# EAGLE library part SN74LVC125AD (library NetGeeks)
Quadruple Bus Buffer Gate With 3-State Outputs Source: Datasheet <http://www.ti.com/lit/ds/symlink/sn74lvc125a.pdf>
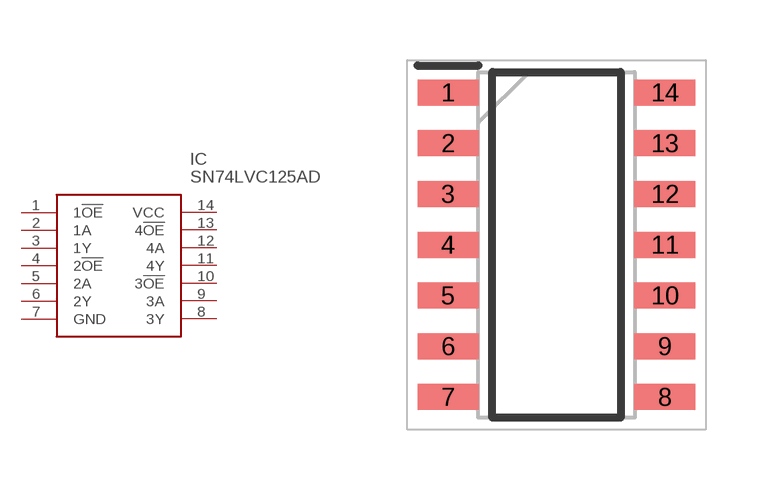
[diagram p12: symbol with the pads of SOIC127P600X175-14N; footprint SOIC127P600X175-14N]

Designator prefix IC

## SN74LVC125AD (Arrow_Part_Number: SN74LVC125AD; Arrow_Price/Stock: https://www.arrow.com/en/products/sn74lvc125ad/texas-instruments; Description: Quadruple Bus Buffer Gate With 3-State Outputs; Height: 1.75mm; Manufacturer_Name: Texas Instruments; Manufacturer_Part_Number: SN74LVC125AD; RS_Part_Number: 6632811P; RS_Price/Stock: http://uk.rs-online.com/web/p/products/6632811P)  [SOIC127P600X175-14N]
1  1!OE
2  1A
3  1Y
4  2!OE
5  2A
6  2Y
7  GND  pwr
8  3Y
9  3A
10  3!OE
11  4Y
12  4A
13  4!OE
14  VCC  pwr

## Footprint SOIC127P600X175-14N (pad centres in mm)
D(R-PDSO-G14)
smd 1.525 x 0.65: 1 -2.712,3.81; 2 -2.712,2.54; 3 -2.712,1.27; 4 -2.712,0; 5 -2.712,-1.27; 6 -2.712,-2.54; 7 -2.712,-3.81; 8 2.712,-3.81; 9 2.712,-2.54; 10 2.712,-1.27; 11 2.712,0; 12 2.712,1.27; 13 2.712,2.54; 14 2.712,3.81